# Altium footprint library CD15ED300JO3F.PcbLib: 1 footprints
Each footprint in its own frame and in the unit in brackets; x right, y up, seen from the top. Pads: shape width x height; smd on the part's side, far side on the other; paste and mask are expansions set on the pad; w line width, h text height; cw(c..) or ccw(c..) is an arc to the next point about the centre after c.
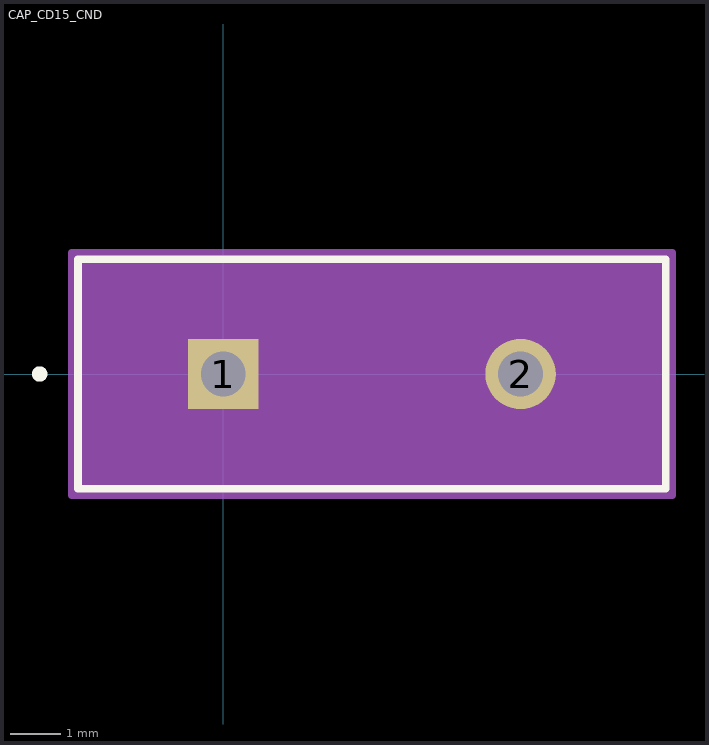
[diagram p0: the footprint, top view; thin cyan lines are the x and y axes]

## CAP_CD15_CND [mil]
pads (2):
  rect 55x55 / inner round 60 / far side rect 55x55 hole 35 paste-27.5 mask+0: 1(0,0)
  round 55 / inner round 60 / far side round 55 hole 35 paste-27.5 mask+0: 2(232.26,0)
Top Overlay:
  circle w6: c-143.37,0 r3
  lines w6: -113.37,-89.5 345.63,-89.5 345.63,89.5 -113.37,89.5 -113.37,-89.5
Mechanical 13:
  circle w0: c-88.37,0 r3
  lines w1: -108.37,-84.5 340.63,-84.5 340.63,84.5 -108.37,84.5 -108.37,-84.5
Mechanical 15:
  region: 350.63,-94.5 -118.37,-94.5 -118.37,94.5 350.63,94.5
  lines w6: -118.37,-94.5 -118.37,94.5 350.63,94.5 350.63,-94.5 -118.37,-94.5
3D body "CAP_CD15_CND.step": height 357.99, standoff -177.99, extent -108.39,-84.49 340.63,84.49